# Altium footprint library dolphi_emblab.PcbLib: 128 footprints (part 8 of 8)
Each footprint in its own frame and in the unit in brackets; x right, y up, seen from the top. Pads: shape width x height; smd on the part's side, far side on the other; paste and mask are expansions set on the pad; w line width, h text height; cw(c..) or ccw(c..) is an arc to the next point about the centre after c.
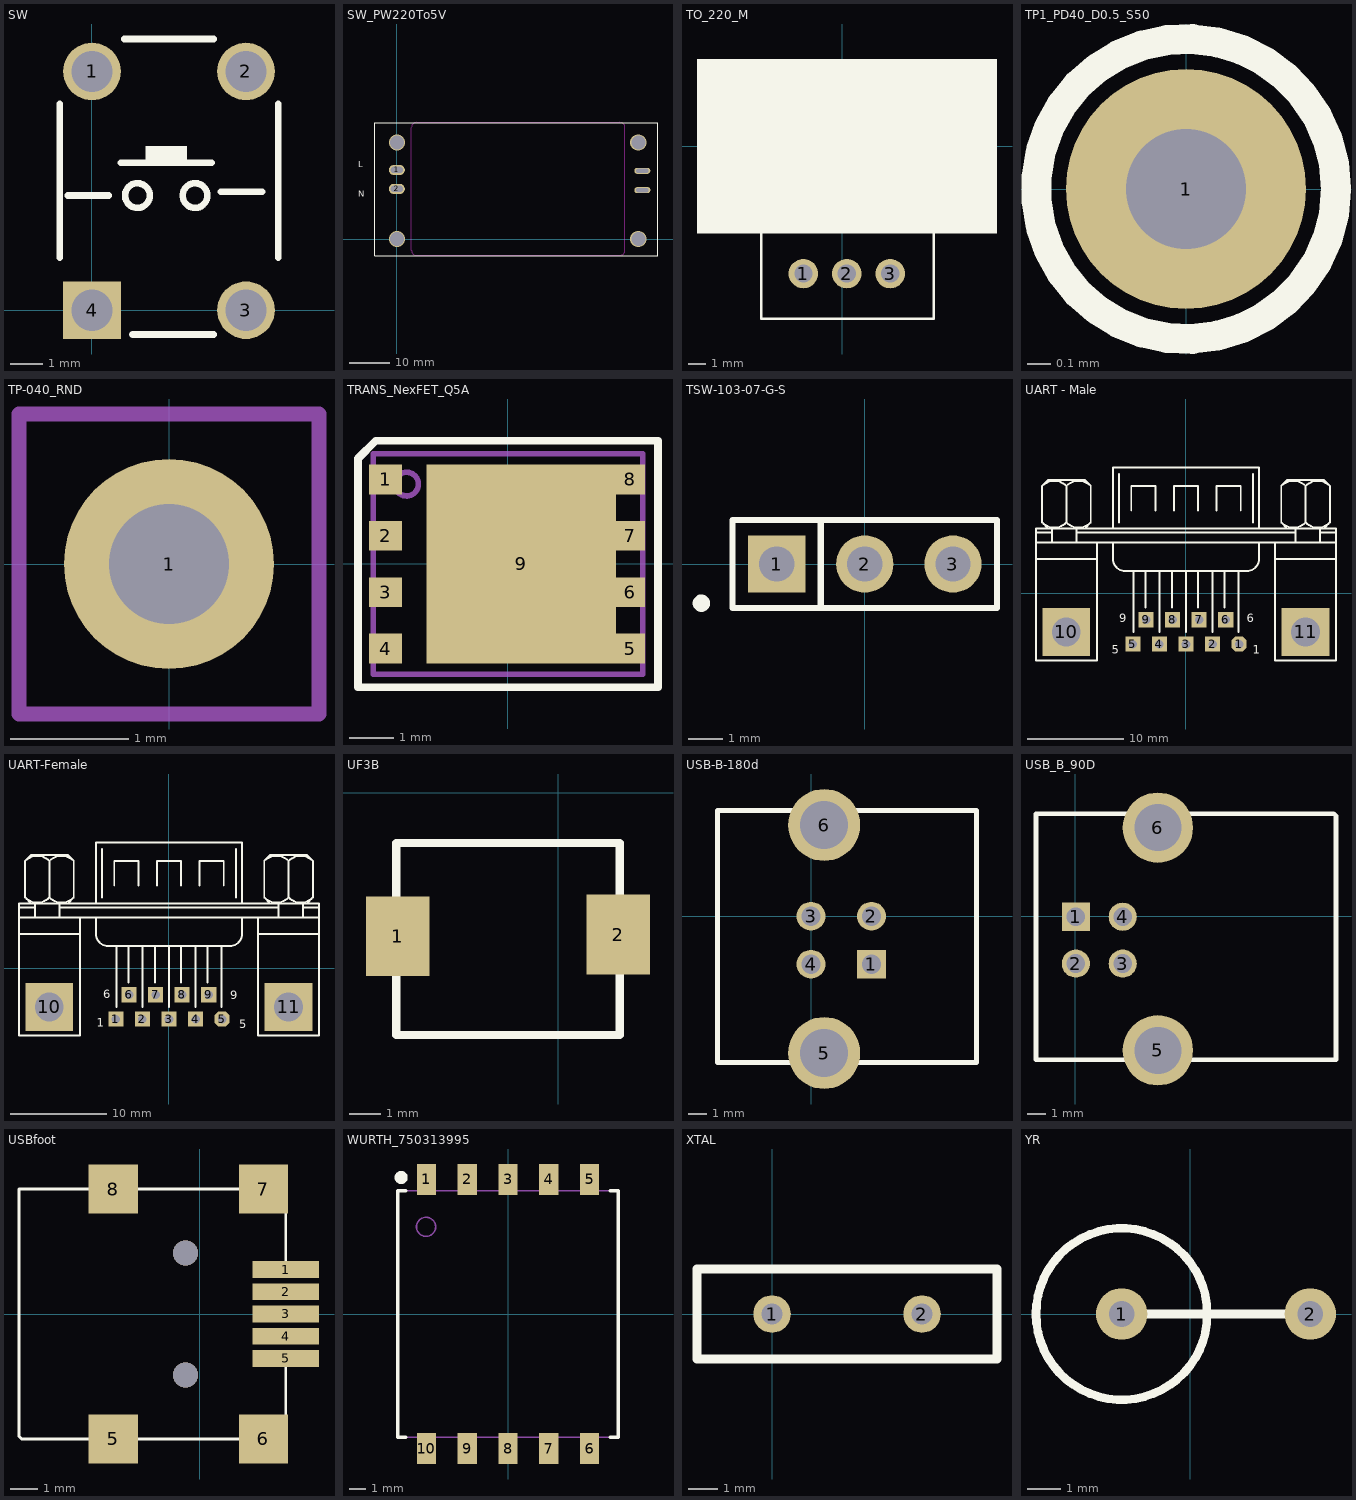
[diagram p7: the footprints below, top view; thin cyan lines are the x and y axes]

## SW [mil]
pads (4):
  round 70 hole 50: 1(0.31,289.91) 2(187.32,289.91) 3(187.32,-0.09)
  rect 70x70 hole 50: 4(0.31,-0.09)
Top Overlay:
  circle w8: c125.46,139.16 r15
  circle w8: c55.46,139.16 r15
  rectangle: 65.46,179.16 115.46,199.16
  lines w8: -39.06,63.37 -39.06,250.38 ; -29.22,139.16 20.78,139.16 ; 35.46,179.16 145.46,179.16 ; 39.68,329.28 147.95,329.28 ; 49.52,-29.62 147.95,-29.62 ; 157,144 207,144 ; 226.69,63.37 226.69,250.38

## SW_PW220To5V [mm]
pads (4):
  oval 4x2.5 hole 1.5 slot 3 at 0 deg: 1(0,17.2) 2(0,12.5)
  oval 4x1.5 hole 1 slot 3 at 0 deg: 3(61,12.18) 4(61,17)
via 60,24 diameter 4 hole 3.5
via 0,24 diameter 4 hole 3.5
via 60,0 diameter 4 hole 3.5
via 0,0 diameter 4 hole 3.5
Top Overlay:
  lines w0.127: -5.461,-4.064 -5.461,28.956 64.897,28.956 64.897,-4.064 -5.461,-4.064
  text "N" at -9.652,10.541 h1.52
  text "L" at -9.652,17.907 h1.52
Keep-Out Layer:
  lines w0.127: 11.963,-4.013 55.423,-4.013 ccw(c55.423,-2.743) 56.693,-2.743 56.693,27.737 ccw(c55.423,27.737) 55.423,29.007 4.902,29.007 ccw(c4.902,27.737) 3.632,27.737 3.632,-2.743 ccw(c4.902,-2.743) 4.902,-4.013 12.04,-4.013

## TO_220_M [mil]
height 39.37
pads (3):
  round 68 hole 42: 1(-89,-293) 2(11,-293) 3(111,-293)
Top Overlay:
  region: 357,201.04 -334,201.04 -334,-200.77 357,-200.77
  lines w6: -185.9,-192.81 -185.9,-397.27 211.4,-397.27 211.4,-192.38

## TP1_PD40_D0.5_S50 [mil]
height 1.4
pads (1):
  round 40 hole 20: 1(0,0)
Top Overlay:
  circle w5: c0,0 r25

## TP-040_RND [mil]
pads (1):
  round 70 / inner round 62 / far side round 62 hole 40: 1(0,0)
Mechanical 5:
  lines w5: -50,-50 -50,50 50,50 50,-50 -50,-50

## TRANS_NexFET_Q5A [mm] "TI recommended land pattern (nominal) M0139-01"
height 1.1
pads (9):
  rect 0.75x0.675 smd paste-0.1 mask+0.051: 1(-2.776,1.917) 2(-2.776,0.639) 3(-2.776,-0.639) 4(-2.776,-1.917)
  rect 0.655x0.675 smd paste-0.1 mask+0.051: 5(2.776,-1.917) 6(2.776,-0.639) 7(2.776,0.639) 8(2.776,1.917)
  rect 4.295x4.51 smd paste-2.2 mask+0.051: 9(0.301,0)
Top Overlay:
  lines w0.178: -3.4,-2.795 -3.4,0 -3.4,2.39 -2.995,2.795 0,2.795 3.4,2.795 3.4,0 3.4,-2.795 0,-2.795 -3.4,-2.795
Top Paste:
  region: -1.412,-0.31 -1.412,-1.88 -0.177,-1.88 -0.177,-0.31
  region: -1.412,0.31 -1.412,1.88 -0.177,1.88 -0.177,0.31
  region: 0.323,-0.31 0.323,-1.88 1.908,-1.88 1.908,-0.31
  region: 0.323,0.31 0.323,1.88 1.908,1.88 1.908,0.31
Mechanical 5:
  circle w0.127: c-2.3,1.81 r0.269
  lines w0.127: -3.05,-2.5 -3.05,2.5 3.05,2.5 3.05,-2.5 -3.05,-2.5
3D body: height 1.11, standoff 0, extent -3.05,-2.5 3.05,2.5

## TSW-103-07-G-S [mm] "Samtec 100mil, 1x3, 230 mil above insulator"
height 8.382
pads (3):
  rect 1.65x1.65 hole 1.016 mask+0: 1(-2.54,0)
  round 1.65 hole 1.016 mask+0: 2(0,0) 3(2.54,0)
Top Overlay:
  circle w0.25: c-4.71,-1.13 r0.125
  lines w0.178: -1.27,-1.27 -1.27,1.27 ; -3.81,-1.27 3.81,-1.27 3.81,1.27 -3.81,1.27 -3.81,-1.27
Mechanical 5:
  rectangle: -3.048,-0.508 -2.032,0.508
  lines w0.127: -3.81,-1.27 -3.81,1.27 3.81,1.27 3.81,-1.27 -3.81,-1.27
3D body: height 8.38, standoff -2.54, extent -3.81,-1.27 3.81,1.27

## UART - Male [mil] "带9根插针型"
pads (11):
  oct 62x62 hole 35: 1(218.39,-209.25)
  rect 62x62 hole 35: 2(109.22,-209.25) 3(0.05,-209.25) 4(-109.11,-209.25) 5(-218.28,-209.25) 6(163.39,-109.25) 7(54.22,-109.25) 8(-54.95,-109.25) 9(-164.11,-109.25)
  rect 196.67x196.67 hole 118.33: 10(-492.45,-159.25) 11(491.72,-159.25)
Top Overlay:
  lines w8: -616.61,140.75 -366.61,140.75 ; -616.61,207.41 616.72,207.41 ; -616.61,249.08 -549.95,249.08 ; -591.7,290.66 ccw(c-541.61,340.75) -491.53,290.66 ; -591.7,440.83 cw(c-541.61,390.75) -491.53,440.83 ; -566.61,265.75 -591.61,290.75 -591.61,440.75 -566.61,465.75 -416.61,465.75 -391.61,440.75 -391.61,290.75 -416.61,265.75 ; -549.95,207.41 -549.95,265.75 ; -491.7,290.66 ccw(c-441.61,340.75) -391.53,290.66 ; -491.7,440.83 cw(c-441.61,390.75) -391.53,440.83 ; -491.61,290.75 -491.61,440.75 ; -449.95,207.41 -449.95,265.75 ; -449.95,249.08 450.05,249.08 ; -366.61,207.41 -366.61,-275.92 -616.61,-275.92 -616.61,265.75 616.72,265.75 616.72,-275.92 366.72,-275.92 366.72,207.41 ; -299.95,207.41 -299.95,140.75 ccw(c-249.95,140.75) -249.95,90.75 250.05,90.75 ccw(c250.05,140.75) 300.05,140.75 300.05,207.41 ; -299.95,265.75 -299.95,515.75 300.05,515.75 300.05,265.75 ; -274.95,290.75 -274.95,490.75 ; -224.95,340.75 -224.95,440.75 -124.95,440.75 -124.95,340.75 ; -216.61,-159.25 -216.61,90.75 ; -166.61,-59.25 -166.61,90.75 ; -108.28,-159.25 -108.28,90.75 ; -58.28,-59.25 -58.28,90.75 ; -49.95,340.75 -49.95,440.75 50.05,440.75 50.05,340.75 ; 0.05,-159.25 0.05,90.75 ; 50.05,-59.25 50.05,90.75 ; 108.39,-159.25 108.39,90.75 ; 125.05,340.75 125.05,440.75 225.05,440.75 225.05,340.75 ; 158.39,-59.25 158.39,90.75 ; 216.72,-159.25 216.72,90.75 ; 275.05,290.75 275.05,490.75 ; 366.72,140.75 616.72,140.75 ; 391.63,290.66 ccw(c441.72,340.75) 491.81,290.66 ; 391.63,440.83 cw(c441.72,390.75) 491.81,440.83 ; 416.72,265.75 391.72,290.75 391.72,440.75 416.72,465.75 566.72,465.75 591.72,440.75 591.72,290.75 566.72,265.75 ; 450.05,207.41 450.05,265.75 ; 491.63,290.66 ccw(c541.72,340.75) 591.81,290.66 ; 491.63,440.83 cw(c541.72,390.75) 591.81,440.83 ; 491.72,290.75 491.72,440.75 ; 550.05,207.41 550.05,265.75 ; 550.05,249.08 616.72,249.08
  text "9" at -275,-120 h35
  text "5" at -305,-250 h35
  text "6" at 250,-120 h35
  text "1" at 275,-250 h35

## UART-Female [mil] "带9个孔型"
pads (11):
  rect 62x62 hole 35: 1(-218.28,-209.25) 2(-109.11,-209.25) 3(0.05,-209.25) 4(109.22,-209.25) 6(-164.11,-109.25) 7(-54.95,-109.25) 8(54.22,-109.25) 9(163.39,-109.25)
  oct 62x62 hole 35: 5(218.39,-209.25)
  rect 196.67x196.67 hole 118.33: 10(-492.45,-159.25) 11(491.72,-159.25)
Top Overlay:
  lines w8: -616.61,140.75 -366.61,140.75 ; -616.61,207.41 616.72,207.41 ; -616.61,249.08 -549.95,249.08 ; -591.7,290.66 ccw(c-541.61,340.75) -491.53,290.66 ; -591.7,440.83 cw(c-541.61,390.75) -491.53,440.83 ; -566.61,265.75 -591.61,290.75 -591.61,440.75 -566.61,465.75 -416.61,465.75 -391.61,440.75 -391.61,290.75 -416.61,265.75 ; -549.95,207.41 -549.95,265.75 ; -491.7,290.66 ccw(c-441.61,340.75) -391.53,290.66 ; -491.7,440.83 cw(c-441.61,390.75) -391.53,440.83 ; -491.61,290.75 -491.61,440.75 ; -449.95,207.41 -449.95,265.75 ; -449.95,249.08 450.05,249.08 ; -366.61,207.41 -366.61,-275.92 -616.61,-275.92 -616.61,265.75 616.72,265.75 616.72,-275.92 366.72,-275.92 366.72,207.41 ; -299.95,207.41 -299.95,140.75 ccw(c-249.95,140.75) -249.95,90.75 250.05,90.75 ccw(c250.05,140.75) 300.05,140.75 300.05,207.41 ; -299.95,265.75 -299.95,515.75 300.05,515.75 300.05,265.75 ; -274.95,290.75 -274.95,490.75 ; -224.95,340.75 -224.95,440.75 -124.95,440.75 -124.95,340.75 ; -216.61,-159.25 -216.61,90.75 ; -166.61,-59.25 -166.61,90.75 ; -108.28,-159.25 -108.28,90.75 ; -58.28,-59.25 -58.28,90.75 ; -49.95,340.75 -49.95,440.75 50.05,440.75 50.05,340.75 ; 0.05,-159.25 0.05,90.75 ; 50.05,-59.25 50.05,90.75 ; 108.39,-159.25 108.39,90.75 ; 125.05,340.75 125.05,440.75 225.05,440.75 225.05,340.75 ; 158.39,-59.25 158.39,90.75 ; 216.72,-159.25 216.72,90.75 ; 275.05,290.75 275.05,490.75 ; 366.72,140.75 616.72,140.75 ; 391.63,290.66 ccw(c441.72,340.75) 491.81,290.66 ; 391.63,440.83 cw(c441.72,390.75) 491.81,440.83 ; 416.72,265.75 391.72,290.75 391.72,440.75 416.72,465.75 566.72,465.75 591.72,440.75 591.72,290.75 566.72,265.75 ; 450.05,207.41 450.05,265.75 ; 491.63,290.66 ccw(c541.72,340.75) 591.81,290.66 ; 491.63,440.83 cw(c541.72,390.75) 591.81,440.83 ; 491.72,290.75 491.72,440.75 ; 550.05,207.41 550.05,265.75 ; 550.05,249.08 616.72,249.08
  text "9" at 251.85,-127.76 h35
  text "5" at 289.25,-247.44 h35
  text "6" at -270.2,-124.61 h35
  text "1" at -296.18,-241.54 h35

## UF3B [mm]
pads (2):
  rect 2x2.5 smd: 1(-5.029,-4.496) 2(1.88,-4.445)
Top Overlay:
  lines w0.254: -5.08,-7.595 -5.08,-1.575 1.93,-1.575 1.93,-7.595 -5.08,-7.595

## USB-B-180d [mil] "180度 直立 方口USB母座"
height 636.22
pads (6):
  rect 60.06x60.06 hole 40: 1(125.98,-100)
  round 60.06 hole 40: 2(125.98,0) 3(0,0) 4(0,-100)
  round 150 hole 100: 5(27.56,-285) 6(27.56,190)
Top Overlay:
  lines w10: -195,-305 -195,220 345,220 345,-305 -195,-305

## USB_B_90D [mil] "180度 横插 方口USB母座"
height 270.08
pads (6):
  rect 60.06x60.06 hole 40: 1(1,-1)
  round 60.06 hole 40: 2(1,-101) 3(101,-101) 4(101,-1)
  round 150 hole 100: 5(176,-286) 6(176,189)
Top Overlay:
  lines w10: -84,-306 556,-306 556,214 551,219 -84,219 -84,-306

## USBfoot [mm]
pads (9):
  rect 2.4x0.6 smd: 1(3.1,1.6) 2(3.1,0.8) 3(3.1,0) 4(3.1,-0.8) 5(3.1,-1.6)
  rect 1.778x1.778 smd: 5(-3.1,-4.5) 6(2.3,-4.5) 7(2.3,4.5) 8(-3.1,4.5)
via -0.5,-2.2 diameter 0.9 hole 0.9
via -0.5,2.2 diameter 0.9 hole 0.9
Top Overlay:
  lines w0.1: -4,4.5 -6.5,4.5 -6.5,-4.4 -6.4,-4.5 -3.9,-4.5 ; -2.3,-4.5 1.5,-4.5 ; -2.3,4.5 1.5,4.5 ; 3.1,-4.5 3.1,-1.8 ; 3.1,1.8 3.1,4.5

## WURTH_750313995 [mm] "WURTH"
height 12.7
pads (10):
  rect 1.17x1.88 smd: 1(-4.96,8.18) 2(-2.48,8.18) 3(0,8.18) 4(2.48,8.18) 5(4.96,8.18) 6(4.96,-8.18) 7(2.48,-8.18) 8(0,-8.18) 9(-2.48,-8.18) 10(-4.96,-8.18)
Top Overlay:
  circle w0.4: c-6.5,8.3 r0.2
  lines w0.2: -6.2,-7.5 -6.7,-7.5 -6.7,7.5 -6.4,7.5 -6.2,7.5 ; 6.2,-7.5 6.7,-7.5 6.7,-5.8 6.7,7.5 6.4,7.5 6.2,7.5
Mechanical 5:
  circle w0.1: c-4.983,5.3 r0.583
  lines w0.1: -5.3,-7.5 -5.3,-8.9 -4.6,-8.9 -4.6,-7.5 ; -5.3,7.5 -5.3,8.9 -4.6,8.9 -4.6,7.5 ; -2.8,-7.5 -2.8,-8.9 -2.1,-8.9 -2.1,-7.5 ; -2.8,7.5 -2.8,8.9 -2.1,8.9 -2.1,7.5 ; -0.3,-7.5 -0.3,-8.9 0.4,-8.9 0.4,-7.5 ; -0.3,7.5 -0.3,8.9 0.4,8.9 0.4,7.5 ; 2.1,-7.5 2.1,-8.9 2.8,-8.9 2.8,-7.5 ; 2.1,7.5 2.1,8.9 2.8,8.9 2.8,7.5 ; 4.6,-7.5 4.6,-8.9 5.3,-8.9 5.3,-7.5 ; 4.6,7.5 4.6,8.9 5.3,8.9 5.3,7.5 ; -6.73,-7.5 6.73,-7.5 6.73,7.5 -6.73,7.5 -6.73,-7.5
  text ".Designator" at -1.295,0.305 h1.14
3D body: height 12.7, standoff 10, extent -5.577,4.706 -4.389,5.894
3D body: height 12.7, standoff 0, extent -6.729,-7.499 6.729,7.499
3D body: height 1.2, standoff 0, extent -5.299,-8.899 -4.601,-7.501
3D body: height 1.2, standoff 0, extent -2.799,-8.899 -2.101,-7.501
3D body: height 1.2, standoff 0, extent -5.299,7.501 -4.601,8.899
3D body: height 1.2, standoff 0, extent -2.799,7.501 -2.101,8.899
3D body: height 1.2, standoff 0, extent -0.299,-8.899 0.399,-7.501
3D body: height 1.2, standoff 0, extent 2.101,-8.899 2.799,-7.501
3D body: height 1.2, standoff 0, extent 4.601,-8.899 5.299,-7.501
3D body: height 1.2, standoff 0, extent -0.299,7.501 0.399,8.899
3D body: height 1.2, standoff 0, extent 2.101,7.501 2.799,8.899
3D body: height 1.2, standoff 0, extent 4.601,7.501 5.299,8.899

## XTAL [mil]
height 196.85
pads (2):
  round 50 hole 28: 1(0,0) 2(200,0)
Top Overlay:
  lines w12: -100,-60 300,-60 300,60 -100,60 -100,-60

## YR [mil]
height 692.91
pads (2):
  round 60 hole 30: 1(-80,0) 2(140,0)
Top Overlay:
  circle w10: c-80,0 r100
  lines w10: -80,0 140,0